# Altium schematic symbol library IRS2103.Schlib: 1 symbol
Pins are listed as number, name and electrical type; pins without a type are passive.

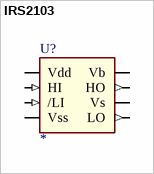
[diagram p0: symbol IRS2103]

## IRS2103
designator U?
Half Bridge Driver
pins: 1 Vdd (power), 2 HI (in), 3 /LI (in), 4 Vss (power), 5 LO (out), 6 Vs (power), 7 HO (out), 8 Vb (power)